# EAGLE library part ARDUINO_R3 (library ApplicationShield)
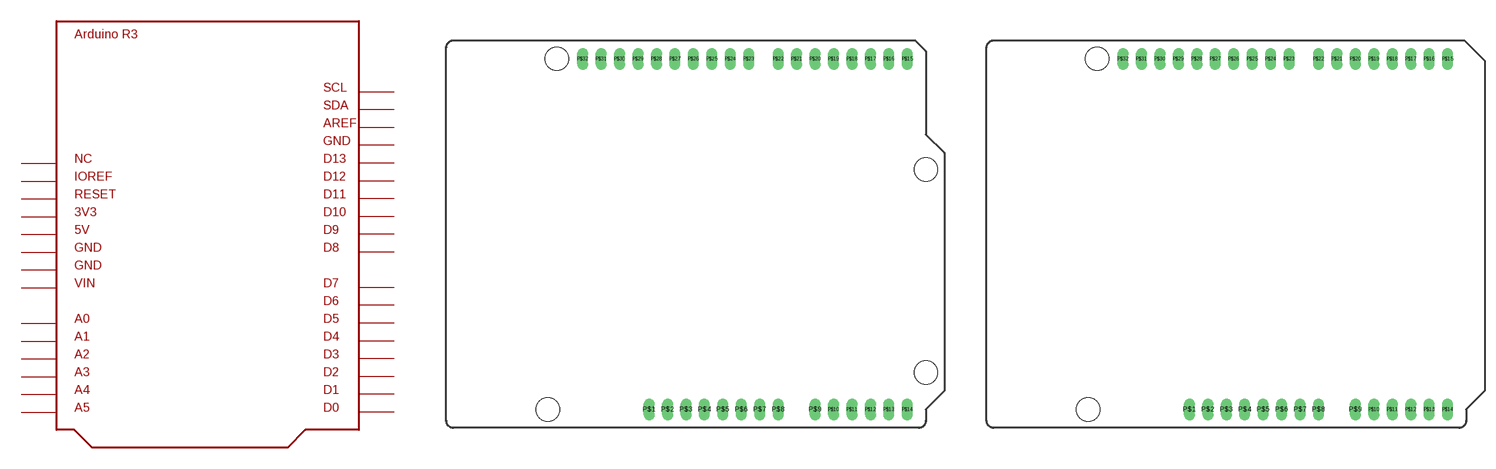
[diagram p0: symbol with the pads of ARDUINO_R3; footprints ARDUINO_R3, ARDUINO_R3_APPS_SHEILD]

Designator prefix BRD

## ARDUINO_R3  [ARDUINO_R3]
P$1  P$1
P$2  P$2
P$3  P$3
P$4  P$4
P$5  P$5
P$6  P$6
P$7  P$7
P$8  P$8
P$9  P$9
P$10  P$10
P$11  P$11
P$12  P$12
P$13  P$13
P$14  P$14
P$15  P$15
P$16  P$16
P$17  P$17
P$18  P$18
P$19  P$19
P$20  P$20
P$21  P$21
P$22  P$22
P$23  P$23
P$24  P$24
P$25  P$25
P$26  P$26
P$27  P$27
P$28  P$28
P$29  P$29
P$30  P$30
P$31  P$31
P$32  P$32

## ARDUINO_R3_APPS  [ARDUINO_R3_APPS_SHEILD]
Pads as for ARDUINO_R3

## ARDUINO_R3_SILK  [ARDUINO_R3_SILK]
Pads as for ARDUINO_R3

## Footprint ARDUINO_R3 (pad centres in mm)
drill 1 long: P$1 27.94,2.54; P$2 30.48,2.54; P$3 33.02,2.54; P$4 35.56,2.54; P$5 38.1,2.54; P$6 40.64,2.54; P$7 43.18,2.54; P$8 45.72,2.54; P$9 50.8,2.54; P$10 53.34,2.54; P$11 55.88,2.54; P$12 58.42,2.54; P$13 60.96,2.54; P$14 63.5,2.54; P$15 63.5,50.8; P$16 60.96,50.8; P$17 58.42,50.8; P$18 55.88,50.8; P$19 53.34,50.8; P$20 50.8,50.8; P$21 48.26,50.8; P$22 45.72,50.8; P$23 41.656,50.8; P$24 39.116,50.8; P$25 36.576,50.8; P$26 34.036,50.8; P$27 31.496,50.8; P$28 28.956,50.8; P$29 26.416,50.8; P$30 23.876,50.8; P$31 21.336,50.8; P$32 18.796,50.8
hole 3.2 at 15.24,50.8
hole 3.2 at 66.04,35.56
hole 3.2 at 66.04,7.62
hole 3.2 at 13.97,2.54

## Footprint ARDUINO_R3_APPS_SHEILD (pad centres in mm)
drill 1 long: P$1 27.94,2.54; P$2 30.48,2.54; P$3 33.02,2.54; P$4 35.56,2.54; P$5 38.1,2.54; P$6 40.64,2.54; P$7 43.18,2.54; P$8 45.72,2.54; P$9 50.8,2.54; P$10 53.34,2.54; P$11 55.88,2.54; P$12 58.42,2.54; P$13 60.96,2.54; P$14 63.5,2.54; P$15 63.5,50.8; P$16 60.96,50.8; P$17 58.42,50.8; P$18 55.88,50.8; P$19 53.34,50.8; P$20 50.8,50.8; P$21 48.26,50.8; P$22 45.72,50.8; P$23 41.656,50.8; P$24 39.116,50.8; P$25 36.576,50.8; P$26 34.036,50.8; P$27 31.496,50.8; P$28 28.956,50.8; P$29 26.416,50.8; P$30 23.876,50.8; P$31 21.336,50.8; P$32 18.796,50.8
hole 3.2 at 15.24,50.8
hole 3.2 at 13.97,2.54

## Footprint ARDUINO_R3_SILK (pad centres in mm)
drill 1 long: P$1 27.94,2.54; P$2 30.48,2.54; P$3 33.02,2.54; P$4 35.56,2.54; P$5 38.1,2.54; P$6 40.64,2.54; P$7 43.18,2.54; P$8 45.72,2.54; P$9 50.8,2.54; P$10 53.34,2.54; P$11 55.88,2.54; P$12 58.42,2.54; P$13 60.96,2.54; P$14 63.5,2.54; P$15 63.5,50.8; P$16 60.96,50.8; P$17 58.42,50.8; P$18 55.88,50.8; P$19 53.34,50.8; P$20 50.8,50.8; P$21 48.26,50.8; P$22 45.72,50.8; P$23 41.656,50.8; P$24 39.116,50.8; P$25 36.576,50.8; P$26 34.036,50.8; P$27 31.496,50.8; P$28 28.956,50.8; P$29 26.416,50.8; P$30 23.876,50.8; P$31 21.336,50.8; P$32 18.796,50.8
hole 3.2 at 15.24,50.8
hole 3.2 at 66.04,35.56
hole 3.2 at 66.04,7.62
hole 3.2 at 13.97,2.54